# Altium integrated library LM1117MPX-3.3.IntLib: 1 symbol
Pins are listed as number, name and electrical type; pins without a type are passive.

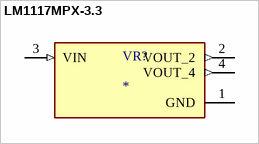
[diagram p0: symbol LM1117MPX-3.3]

## LM1117MPX-3.3
designator VR?
800-mA 15-V linear voltage regulator; MP: LM1117MPX-3.3; MF: Texas Instruments; Check_prices: https://www.snapeda.com/parts/LM1117MPX-3.3/Texas+Instruments/view-part/?ref=eda; Value: *; Availability: In Stock; Price: None; Package: SOT-223-4 Texas Instruments; SnapEDA_Link: https://www.snapeda.com/parts/LM1117MPX-3.3/Texas+Instruments/view-part/?ref=snap; Purchase-URL: https://pricing.snapeda.com/search/part/LM1117MPX-3.3/?ref=eda
footprint VREG_LM1117MPX-3.3
pins: 1 GND (power), 2 VOUT_2 (out), 3 VIN (in), 4 VOUT_4 (out)